# Altium footprint library Arduino.PcbLib: 1 footprints
Each footprint in its own frame and in the unit in brackets; x right, y up, seen from the top. Pads: shape width x height; smd on the part's side, far side on the other; paste and mask are expansions set on the pad; w line width, h text height; cw(c..) or ccw(c..) is an arc to the next point about the centre after c.
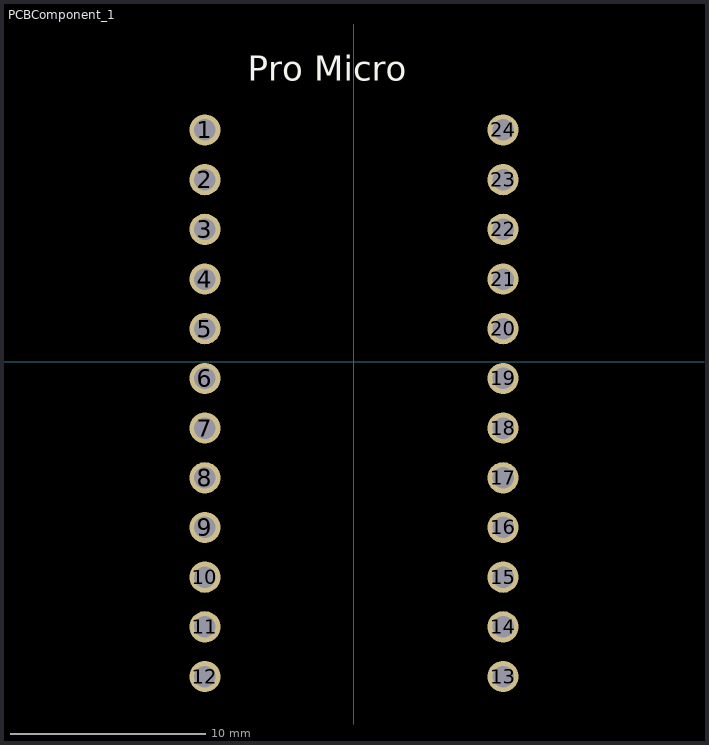
[diagram p0: the footprint, top view; thin cyan lines are the x and y axes]

## PCBComponent_1 [mm]
pads (24):
  round 1.6 hole 1.1 paste-2539.97: 1(-7.595,11.845) 2(-7.595,9.305) 3(-7.595,6.765) 4(-7.595,4.225) 5(-7.595,1.685) 6(-7.595,-0.855) 7(-7.595,-3.395) 8(-7.595,-5.935) 9(-7.595,-8.475) 10(-7.595,-11.015) 11(-7.595,-13.555) 12(-7.595,-16.095) 13(7.645,-16.095) 14(7.645,-13.555) 15(7.645,-11.015) 16(7.645,-8.475) 17(7.645,-5.935) 18(7.645,-3.395) 19(7.645,-0.855) 20(7.645,1.685) 21(7.645,4.225) 22(7.645,6.765) 23(7.645,9.305) 24(7.645,11.845)
Top Overlay:
  text "Pro Micro" at -5.396,14.365 h1.27